# Altium schematic symbol library BZX84C22.SchLib: 2 symbols
Pins are listed as number, name and electrical type; pins without a type are passive.

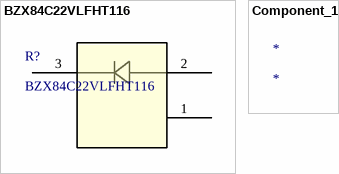
[diagram p0: symbols BZX84C22VLFHT116 to Component_1]

## BZX84C22VLFHT116
designator R?
No Description Available; Vendor: ROHM Semiconductor; Built_By: EMA_Matt; SourceLibrary: Rohm_2019-09-23; Manufacturer_Part_Number: BZX84C22VLFHT116; Copyright: Copyright (C) 2018 Accelerated Designs. All rights reserved; RefDes: RefDes; Type: DEV
footprint TRANS_BZX84_ROM
pins: 1 2, 2 1, 3

## Component_1
designator *